# Altium footprint library CAPC160X70X80L30N.PcbLib: 1 footprints
Each footprint in its own frame and in the unit in brackets; x right, y up, seen from the top. Pads: shape width x height; smd on the part's side, far side on the other; paste and mask are expansions set on the pad; w line width, h text height; cw(c..) or ccw(c..) is an arc to the next point about the centre after c.
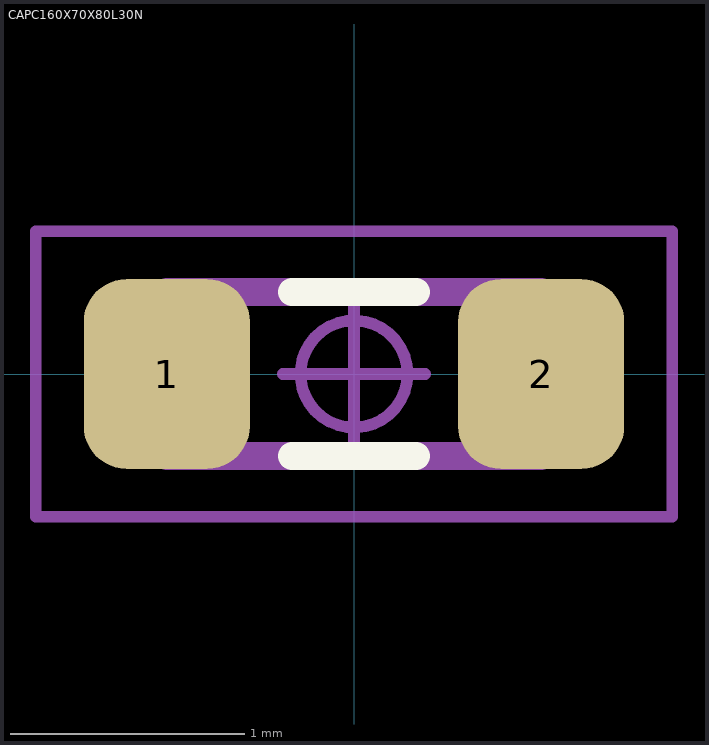
[diagram p0: the footprint, top view; thin cyan lines are the x and y axes]

## CAPC160X70X80L30N [mm] "Capacitor, Chip; 1.60 mm L X 0.70 mm W X 0.80 mm H body"
height 0.8
pads (2):
  rrect51% 0.71x0.81 smd: 1(-0.8,0) 2(0.8,0)
Top Overlay:
  lines w0.12: -0.265,-0.35 0.265,-0.35 ; -0.265,0.35 0.265,0.35
Mechanical 3:
  lines w0.12: -0.8,-0.35 -0.8,0.35 0.8,0.35 0.8,-0.35 -0.8,-0.35
Mechanical 5:
  lines w0.025: -0.8,-0.35 -0.5,-0.35 -0.5,0.35 -0.8,0.35 ; -0.8,-0.35 -0.8,0.35 ; -0.8,-0.35 -0.8,0.35 ; -0.8,-0.35 0.8,-0.35 ; -0.8,0.35 0.8,0.35 ; 0.8,-0.35 0.8,0.35 ; 0.8,-0.35 0.5,-0.35 0.5,0.35 0.8,0.35 ; 0.8,-0.35 0.8,0.35
Mechanical 7:
  circle w0.05: c0,0 r0.229
  lines w0.05: -0.305,0 0.305,0 ; 0,-0.305 0,0.305 ; -1.36,-0.61 -1.36,0.61 1.36,0.61 1.36,-0.61 -1.36,-0.61
Mechanical 9:
  text "'.Designator'" at -5.355,-0.354 h1
3D body "CAPC160X70X80L30.STEP": height 0.8, standoff 0, extent -0.8,-0.35 0.8,0.35
3D body: height 2, standoff 0.05, extent -1.35,-0.6 1.35,0.6
3D body: height 1.04, standoff 0, extent -1.36,-0.61 1.36,0.61